# EAGLE library part MIC4127 (library IC)
Dual Non-invertering Gate Driver
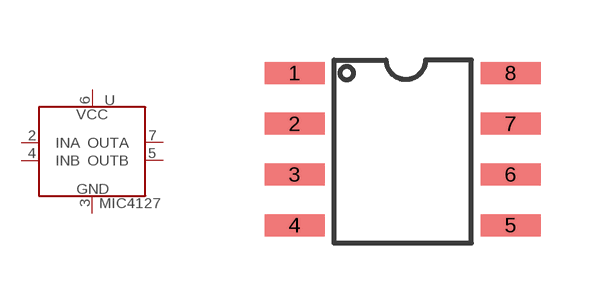
[diagram p24: symbol with the pads of SOIC-3.9MM-8; footprint SOIC-3.9MM-8]

Designator prefix U

## MIC4127  [SOIC-3.9MM-8]
2  INA
3  GND
4  INB
5  OUTB
6  VS
7  OUTA

## Footprint SOIC-3.9MM-8 (pad centres in mm)
smd 1.5 x 0.55: 1 -2.699,2.064; 2 -2.699,0.794; 3 -2.699,-0.476; 4 -2.699,-1.746; 5 2.701,-1.746; 6 2.701,-0.476; 7 2.701,0.794; 8 2.701,2.064